# Altium schematic symbol library RCS04021K00JNED.SchLib: 1 symbol
Pins are listed as number, name and electrical type; pins without a type are passive.

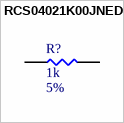
[diagram p0: symbol RCS04021K00JNED]

## RCS04021K00JNED
designator R?  Resistance: 1k  Tolerance: 5%  (hidden comment: RCS04021K00JNED)
RES SMD 1K OHM 5% 1/5W 0402; MFR: Vishay Dale; PN: RCS04021K00JNED; Footprint: RES0402; Package: 0402; ComponentLink1Description: Datasheet; ComponentLink1URL: https://www.vishay.com/docs/20065/rcse3.pdf; Power Rating: 1/5W; Supplier 1: Digi-Key; Supplier Part Number 1: 541-2913-1-ND
footprint RES0402 (Generic 0402 PCB Footprint)
pins: 1, 2